# Altium schematic symbol library Testboard.SchLib: 5 symbols
Pins are listed as number, name and electrical type; pins without a type are passive.

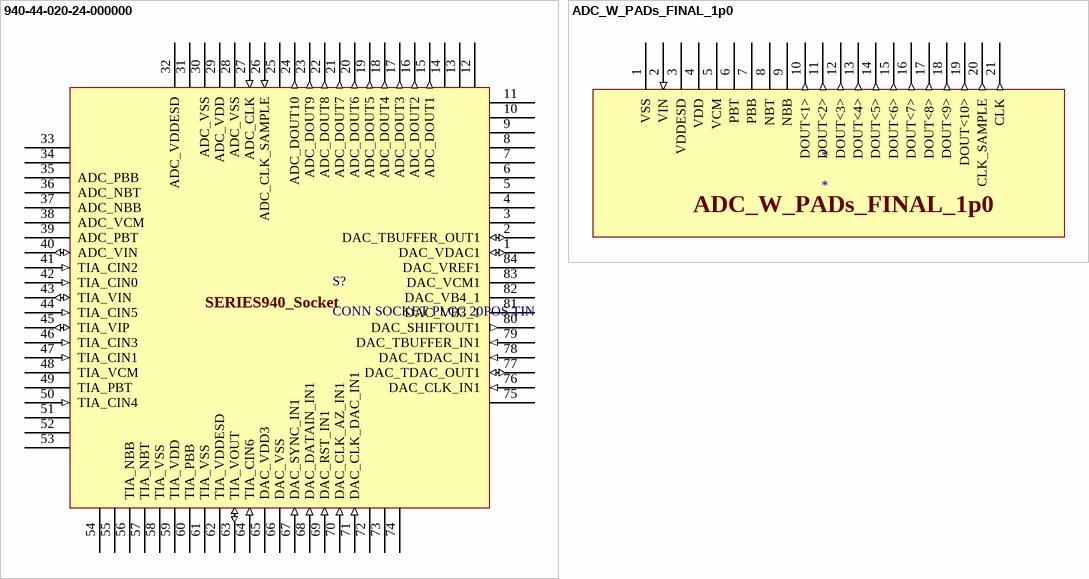
[diagram p0: symbols 940-44-020-24-000000 to ADC_W_PADs_FINAL_1p0]

## 940-44-020-24-000000
designator S?, comment CONN SOCKET PLCC 20POS TIN
Manufacturer: Mill-Max; Manufacturer Part Number: 940-44-020-24-000000; Body Material: PPS; Number of Positions: 20; Pitch: 0.1inch; Supplier 1: Digi-Key; RoHS: Yes; Category: IC and Component Sockets; Stock 1: 458; Pricing 1: 1=1.60000, 10=1.44800, 25=1.35920, 50=1.30020, 100=1.24110, 250=1.12292, 500=1.03426, 1000=0.88650, 2500=0.82740 (USD); Mount: Through Hole; Case/Package: PLCC; Number of Pins: 20; Contact Plating: Tin; Contact Material: Copper; Housing Material: Polyphenylene; Insulation Material: Polyphenylene; Min Operating Temperature: -40°C; Max Operating Temperature: 120°C; Packaging: Rail/Tube; Package Quantity: 38; Number of Rows: 4; Termination: Solder; Number of Contacts: 20; Orientation: Straight; Series: 940; Contact Type: Type D; Length: 15.57mm; Width: 15.57mm; Depth: 15.57mm; Lead Free: Lead Free; RoHS Compliant: Yes; ComponentLink1URL: https://datasheet.ciiva.com/3963/940-44-020-24-000000-3963718.pdf?src-supplier=Arrow+Electronics; ComponentLink1Description: https://datasheet.ciiva.com/3963/940-44-020-24-000000-3963718.pdf?src-supplier=Arrow+Electronics; ComponentLink2URL: https://datasheet.ciiva.com/16425/9404402024000000-16425193.pdf?src-supplier=Future+Electronics; ComponentLink2Description: https://datasheet.ciiva.com/16425/9404402024000000-16425193.pdf?src-supplier=Future+Electronics; Supplier Part Number 1: ED90005-ND
footprint SERIES940_Socket
pins: 1 DAC_VDAC1 (io), 2 DAC_TBUFFER_OUT1 (io), 3, 4, 5, 6, 7, 8, 9, 10, 11, 12, 13, 14, 15 ADC_DOUT1 (out), 16 ADC_DOUT2 (out), 17 ADC_DOUT3 (out), 18 ADC_DOUT4 (out), 19 ADC_DOUT5 (out), 20 ADC_DOUT6 (out), 21 ADC_DOUT7 (out), 22 ADC_DOUT8 (out), 23 ADC_DOUT9 (out), 24 ADC_DOUT10 (out), 25, 26 ADC_CLK_SAMPLE (in), 27 ADC_CLK (in), 28 ADC_VSS, 29 ADC_VDD, 30 ADC_VSS, 31, 32 ADC_VDDESD, 33, 34, 35 ADC_PBB, 36 ADC_NBT, 37 ADC_NBB, 38 ADC_VCM, 39 ADC_PBT, 40 ADC_VIN (io), 41 TIA_CIN2 (in), 42 TIA_CIN0 (in), 43 TIA_VIN (io), 44 TIA_CIN5 (in), 45 TIA_VIP (io), 46 TIA_CIN3 (in), 47 TIA_CIN1 (in), 48 TIA_VCM, 49 TIA_PBT, 50 TIA_CIN4 (in), 51, 52, 53, 54, 55, 56 TIA_NBB, 57 TIA_NBT, 58 TIA_VSS, 59 TIA_VDD, 60 TIA_PBB, 61 TIA_VSS, 62 TIA_VDDESD, 63 TIA_VOUT (io), 64 TIA_CIN6 (in), 65 DAC_VDD3, 66 DAC_VSS, 67 DAC_SYNC_IN1 (in), 68 DAC_DATAIN_IN1 (in), 69 DAC_RST_IN1 (in), 70 DAC_CLK_AZ_IN1 (in), 71 DAC_CLK_DAC_IN1 (in), 72, 73, 74, 75, 76 DAC_CLK_IN1 (in), 77 DAC_TDAC_OUT1 (io), 78 DAC_TDAC_IN1 (in), 79 DAC_TBUFFER_IN1 (in), 80 DAC_SHIFTOUT1 (out), 81 DAC_VB3_1, 82 DAC_VB4_1, 83 DAC_VCM1, 84 DAC_VREF1
text: SERIES940_Socket

## ADC_W_PADs_FINAL_1p0
designator *
pins: 1 VSS (power), 2 VIN (in), 3 VDDESD (power), 4 VDD (power), 5 VCM (power), 6 PBT (power), 7 PBB (power), 8 NBT (power), 9 NBB (power), 10 DOUT<1> (out), 11 DOUT<2> (out), 12 DOUT<3> (out), 13 DOUT<4> (out), 14 DOUT<5> (out), 15 DOUT<6> (out), 16 DOUT<7> (out), 17 DOUT<8> (out), 18 DOUT<9> (out), 19 DOUT<10> (out), 20 CLK_SAMPLE (out), 21 CLK (out)

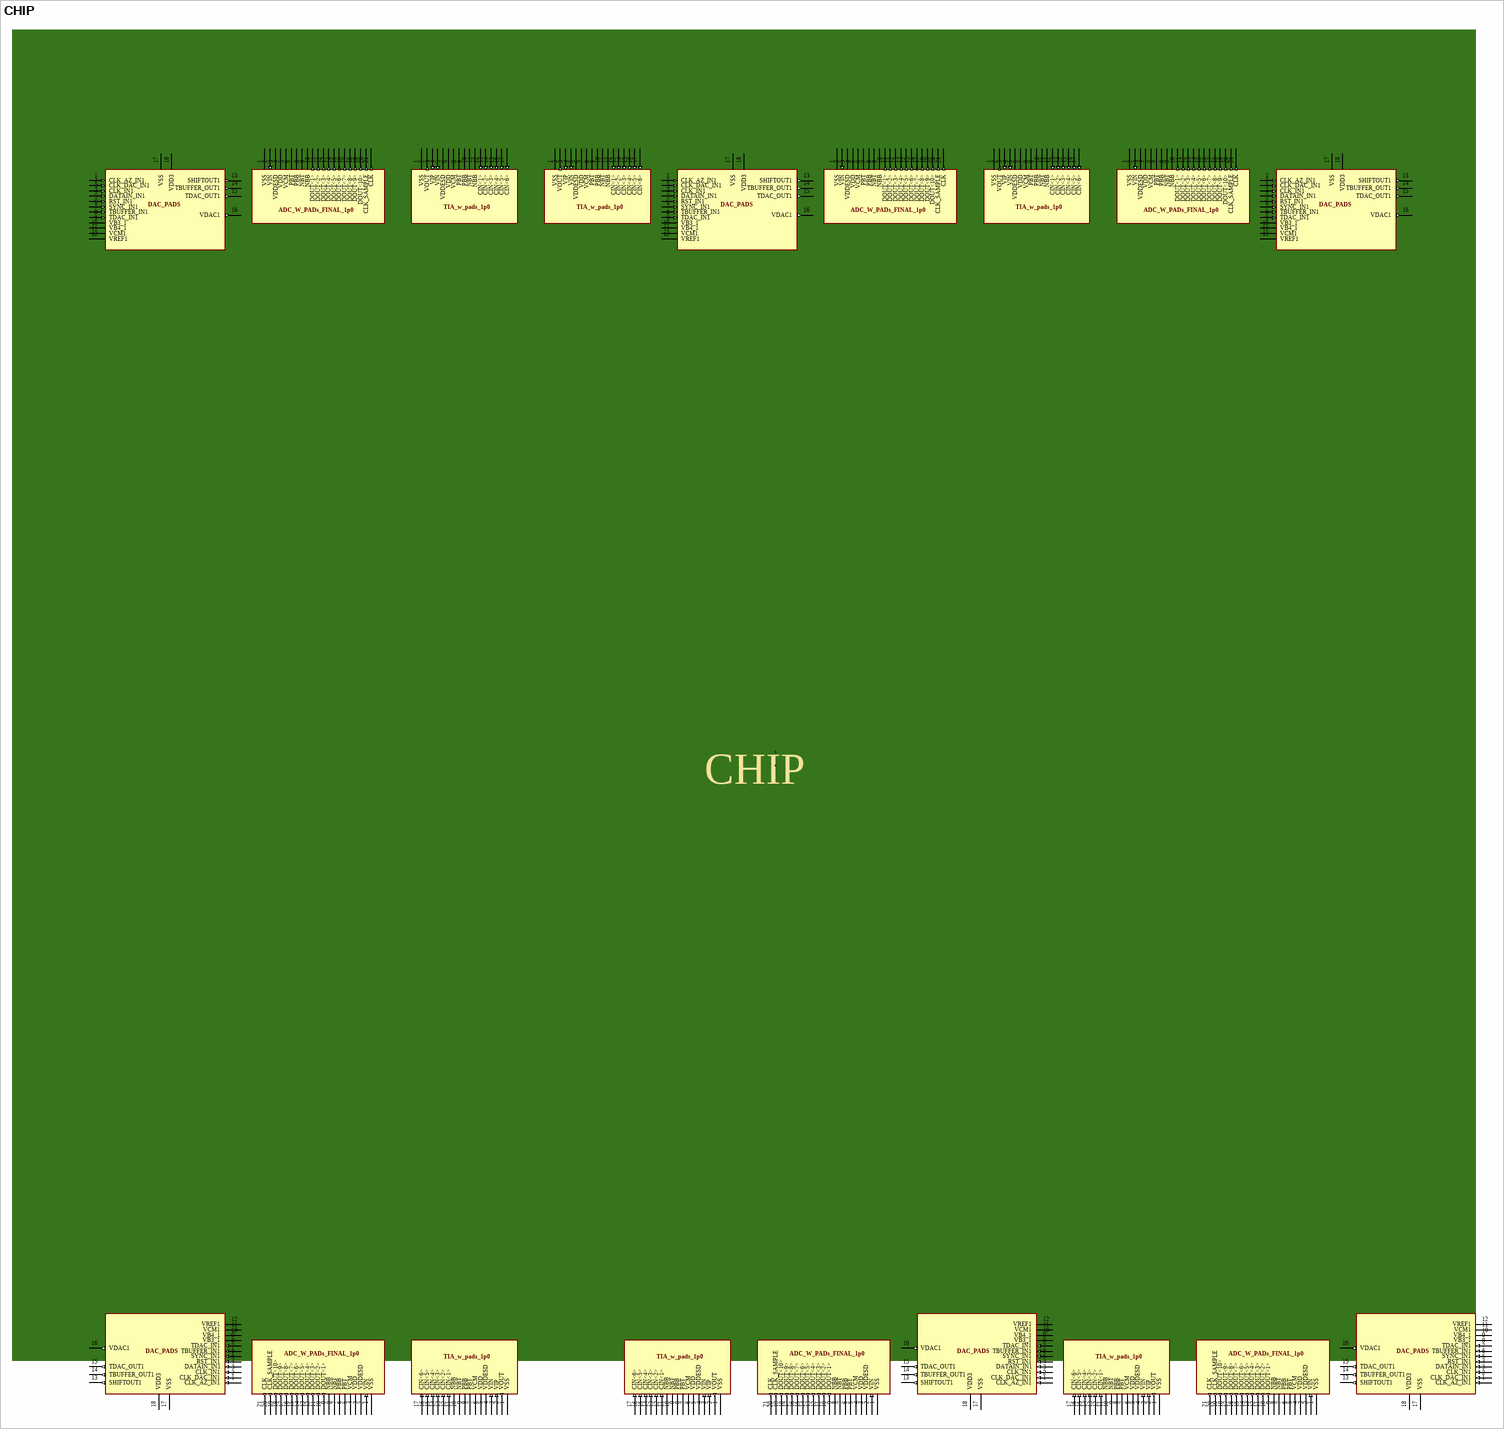
[diagram p1: symbol CHIP]

## CHIP
designator *
pins: 1 VSS (power), 1 VSS (power), 1 CLK_AZ_IN1 (in), 1 VSS (power), 1 CLK_AZ_IN1 (in), 1 VSS (power), 1 VSS (power), 1 VSS (power), 1 CLK_AZ_IN1 (in), 1 CLK_AZ_IN1 (in), 1 VSS (power), 1 VSS (power), 1 VSS (power), 1 VSS (power), 1 CLK_AZ_IN1 (in), 1 VSS (power), 1 VSS (power), 1 CLK_AZ_IN1 (in), 2 VIN (in), 2 VOUT (out), 2 CLK_DAC_IN1 (in), 2 VOUT (out), 2 CLK_DAC_IN1 (in), 2 VIN (in), 2 VOUT (out), 2 VIN (in), 2 CLK_DAC_IN1 (in), 2 CLK_DAC_IN1 (in), 2 VIN (in), 2 VOUT (out), 2 VOUT (out), 2 VIN (in), 2 CLK_DAC_IN1 (in), 2 VOUT (out), 2 VIN (in), 2 CLK_DAC_IN1 (in), 3 VDDESD (power), 3 VIP (in), 3 CLK_IN1 (in), 3 VIP (in), 3 CLK_IN1 (in), 3 VDDESD (power), 3 VIP (in), 3 VDDESD (power), 3 CLK_IN1 (in), 3 CLK_IN1 (in), 3 VDDESD (power), 3 VIP (in), 3 VIP (in), 3 VDDESD (power), 3 CLK_IN1 (in), 3 VIP (in), 3 VDDESD (power), 3 CLK_IN1 (in), 4 VDD (power), 4 VIN (in), 4 DATAIN_IN1 (in), 4 VIN (in), 4 DATAIN_IN1 (in), 4 VDD (power), 4 VIN (in), 4 VDD (power), 4 DATAIN_IN1 (in), 4 DATAIN_IN1 (in), 4 VDD (power), 4 VIN (in), 4 VIN (in), 4 VDD (power), 4 DATAIN_IN1 (in), 4 VIN (in), 4 VDD (power), 4 DATAIN_IN1 (in), 5 VCM (power), 5 VDDESD (power), 5 RST_IN1 (in), 5 VDDESD (power), 5 RST_IN1 (in), 5 VCM (power), 5 VDDESD (power), 5 VCM (power), 5 RST_IN1 (in), 5 RST_IN1 (in), 5 VCM (power), 5 VDDESD (power), 5 VDDESD (power), 5 VCM (power), 5 RST_IN1 (in), 5 VDDESD (power), 5 VCM (power), 5 RST_IN1 (in), 6 PBT (power), 6 VDD (power), 6 SYNC_IN1 (in), 6 VDD (power), 6 SYNC_IN1 (in), 6 PBT (power), 6 VDD (power), 6 PBT (power), 6 SYNC_IN1 (in), 6 SYNC_IN1 (in), 6 PBT (power), 6 VDD (power), 6 VDD (power), 6 PBT (power), 6 SYNC_IN1 (in), 6 VDD (power), 6 PBT (power), 6 SYNC_IN1 (in), 7 PBB (power), 7 VCM (power), 7 TBUFFER_IN1 (in), 7 VCM (power), 7 TBUFFER_IN1 (in), 7 PBB (power), 7 VCM (power), 7 PBB (power), 7 TBUFFER_IN1 (in), 7 TBUFFER_IN1 (in), 7 PBB (power), 7 VCM (power), 7 VCM (power), 7 PBB (power), 7 TBUFFER_IN1 (in), 7 VCM (power), 7 PBB (power), 7 TBUFFER_IN1 (in), 8 NBT (power), 8 PBT (power), 8 TDAC_IN1 (in), 8 PBT (power), 8 TDAC_IN1 (in), 8 NBT (power), 8 PBT (power), 8 NBT (power), 8 TDAC_IN1 (in), 8 TDAC_IN1 (in), 8 NBT (power), 8 PBT (power), 8 PBT (power), 8 NBT (power), 8 TDAC_IN1 (in), 8 PBT (power), 8 NBT (power), 8 TDAC_IN1 (in), 9 NBB (power), 9 PBB (power), 9 VB3_1 (power), 9 PBB (power), 9 VB3_1 (power), 9 NBB (power), 9 PBB (power), 9 NBB (power), 9 VB3_1 (power), 9 VB3_1 (power), 9 NBB (power), 9 PBB (power), 9 PBB (power), 9 NBB (power), 9 VB3_1 (power), 9 PBB (power), 9 NBB (power), 9 VB3_1 (power), 10 DOUT<1> (out), 10 NBT (power), 10 VB4_1 (power), 10 NBT (power), 10 VB4_1 (power), 10 DOUT<1> (out), 10 NBT (power), 10 DOUT<1> (out), 10 VB4_1 (power), 10 VB4_1 (power), 10 DOUT<1> (out), 10 NBT (power), 10 NBT (power), 10 DOUT<1> (out), 10 VB4_1 (power), 10 NBT (power), 10 DOUT<1> (out), 10 VB4_1 (power), 11 DOUT<2> (out), 11 NBB (power), 11 VCM1 (power), 11 NBB (power), 11 VCM1 (power), 11 DOUT<2> (out), 11 NBB (power), 11 DOUT<2> (out), 11 VCM1 (power), 11 VCM1 (power), 11 DOUT<2> (out), 11 NBB (power), 11 NBB (power), 11 DOUT<2> (out), 11 VCM1 (power), 11 NBB (power), 11 DOUT<2> (out), 11 VCM1 (power), 12 DOUT<3> (out), 12 CIN<1> (in), 12 VREF1 (power), 12 CIN<1> (in), 12 VREF1 (power), 12 DOUT<3> (out), 12 CIN<1> (in), 12 DOUT<3> (out), 12 VREF1 (power), 12 VREF1 (power), 12 DOUT<3> (out), 12 CIN<1> (in), 12 CIN<1> (in), 12 DOUT<3> (out), 12 VREF1 (power), 12 CIN<1> (in), 12 DOUT<3> (out), 12 VREF1 (power), 13 DOUT<4> (out), 13 CIN<2> (in), 13 SHIFTOUT1 (out), 13 CIN<2> (in), 13 SHIFTOUT1 (out), 13 DOUT<4> (out), 13 CIN<2> (in), 13 DOUT<4> (out), 13 SHIFTOUT1 (out), 13 SHIFTOUT1 (out), 13 DOUT<4> (out), 13 CIN<2> (in), 13 CIN<2> (in), 13 DOUT<4> (out), 13 SHIFTOUT1 (out), 13 CIN<2> (in), 13 DOUT<4> (out), 13 SHIFTOUT1 (out), 14 DOUT<5> (out), 14 CIN<3> (in), 14 TBUFFER_OUT1 (out), 14 CIN<3> (in), 14 TBUFFER_OUT1 (out), 14 DOUT<5> (out), 14 CIN<3> (in), 14 DOUT<5> (out), 14 TBUFFER_OUT1 (out), 14 TBUFFER_OUT1 (out), 14 DOUT<5> (out), 14 CIN<3> (in), 14 CIN<3> (in), 14 DOUT<5> (out), 14 TBUFFER_OUT1 (out), 14 CIN<3> (in), 14 DOUT<5> (out), 14 TBUFFER_OUT1 (out), 15 DOUT<6> (out), 15 CIN<4> (in), 15 TDAC_OUT1 (out), 15 CIN<4> (in), 15 TDAC_OUT1 (out), 15 DOUT<6> (out), 15 CIN<4> (in), 15 DOUT<6> (out), 15 TDAC_OUT1 (out), 15 TDAC_OUT1 (out), 15 DOUT<6> (out), 15 CIN<4> (in), 15 CIN<4> (in), 15 DOUT<6> (out), 15 TDAC_OUT1 (out), 15 CIN<4> (in), 15 DOUT<6> (out), 15 TDAC_OUT1 (out), 16 DOUT<7> (out), 16 CIN<5> (in), 16 VDAC1 (out), 16 CIN<5> (in), 16 VDAC1 (out), 16 DOUT<7> (out), 16 CIN<5> (in), 16 DOUT<7> (out), 16 VDAC1 (out), 16 VDAC1 (out), 16 DOUT<7> (out), 16 CIN<5> (in), 16 CIN<5> (in), 16 DOUT<7> (out), 16 VDAC1 (out), 16 CIN<5> (in), 16 DOUT<7> (out), 16 VDAC1 (out), 17 DOUT<8> (out), 17 CIN<6> (in), 17 VSS (power), 17 CIN<6> (in), 17 VSS (power), 17 DOUT<8> (out), 17 CIN<6> (in), 17 DOUT<8> (out), 17 VSS (power), 17 VSS (power), 17 DOUT<8> (out), 17 CIN<6> (in), 17 CIN<6> (in), 17 DOUT<8> (out), 17 VSS (power), 17 CIN<6> (in), 17 DOUT<8> (out), 17 VSS (power), 18 DOUT<9> (out), 18 VDD3 (power), 18 VDD3 (power), 18 DOUT<9> (out), 18 DOUT<9> (out), 18 VDD3 (power), 18 VDD3 (power), 18 DOUT<9> (out), 18 DOUT<9> (out), 18 VDD3 (power), 18 DOUT<9> (out), 18 VDD3 (power), 19 DOUT<10> (out), 19 DOUT<10> (out), 19 DOUT<10> (out), 19 DOUT<10> (out), 19 DOUT<10> (out), 19 DOUT<10> (out), 20 CLK_SAMPLE (out), 20 CLK_SAMPLE (out), 20 CLK_SAMPLE (out), 20 CLK_SAMPLE (out), 20 CLK_SAMPLE (out), 20 CLK_SAMPLE (out), 21 CLK (out), 21 CLK (out), 21 CLK (out), 21 CLK (out), 21 CLK (out), 21 CLK (out)
text: DAC_PADS; TIA_w_pads_1p0; ADC_W_PADs_FINAL_1p0

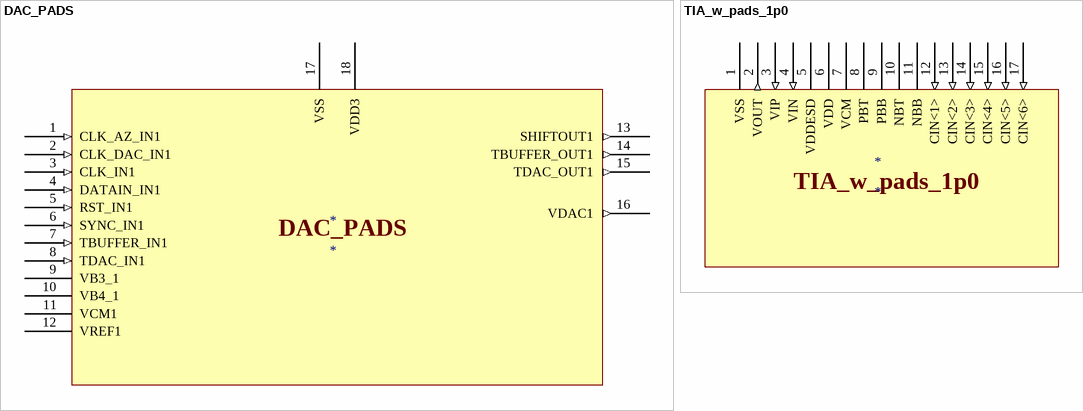
[diagram p2: symbols DAC_PADS to TIA_w_pads_1p0]

## DAC_PADS
designator *
pins: 1 CLK_AZ_IN1 (in), 2 CLK_DAC_IN1 (in), 3 CLK_IN1 (in), 4 DATAIN_IN1 (in), 5 RST_IN1 (in), 6 SYNC_IN1 (in), 7 TBUFFER_IN1 (in), 8 TDAC_IN1 (in), 9 VB3_1 (power), 10 VB4_1 (power), 11 VCM1 (power), 12 VREF1 (power), 13 SHIFTOUT1 (out), 14 TBUFFER_OUT1 (out), 15 TDAC_OUT1 (out), 16 VDAC1 (out), 17 VSS (power), 18 VDD3 (power)

## TIA_w_pads_1p0
designator *
pins: 1 VSS (power), 2 VOUT (out), 3 VIP (in), 4 VIN (in), 5 VDDESD (power), 6 VDD (power), 7 VCM (power), 8 PBT (power), 9 PBB (power), 10 NBT (power), 11 NBB (power), 12 CIN<1> (in), 13 CIN<2> (in), 14 CIN<3> (in), 15 CIN<4> (in), 16 CIN<5> (in), 17 CIN<6> (in)